# Altium footprint library semicon-chip.PcbLib: 62 footprints (part 2 of 4)
Each footprint in its own frame and in the unit in brackets; x right, y up, seen from the top. Pads: shape width x height; smd on the part's side, far side on the other; paste and mask are expansions set on the pad; w line width, h text height; cw(c..) or ccw(c..) is an arc to the next point about the centre after c.
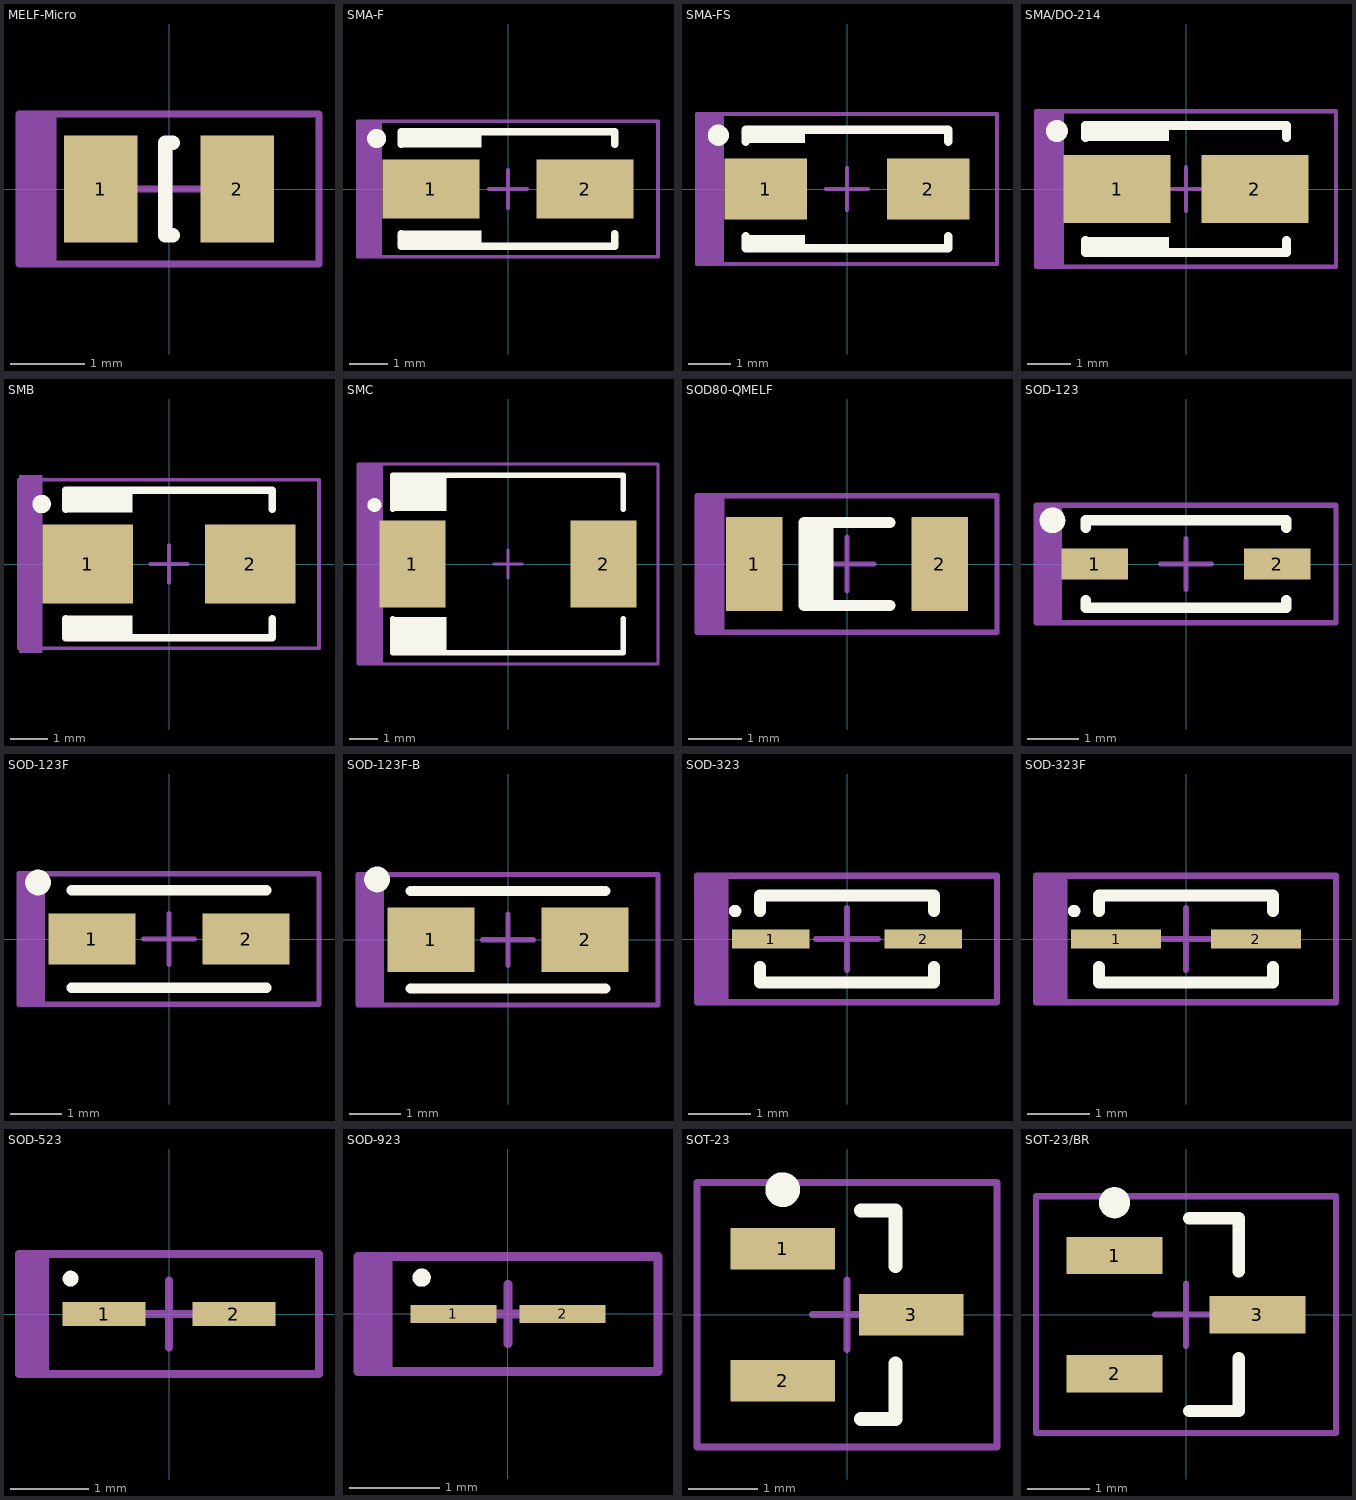
[diagram p1: the footprints below, top view; thin cyan lines are the x and y axes]

## MELF-Micro [mm] "MELF Diode, 2-Leads, Body 1,90x1,22mm, IPC Medium Density"
height 1.25
pads (2):
  rect 1x1.45 smd: 1(-0.925,0) 2(0.925,0)
Top Overlay:
  lines w0.2: 0.05,-0.625 -0.05,-0.625 -0.05,0.625 0.05,0.625
Mechanical 13:
  rectangle: -2.032,-1.016 -1.524,1.016
  lines w0.1: -2.032,-1.016 2.032,-1.016 2.032,1.016 -2.032,1.016 -2.032,-1.016
  text ".Designator" at -1.36,-0.33 h0.7
Mechanical 15:
  lines w0.05: -2.032,-1.016 2.032,-1.016 2.032,1.016 -2.032,1.016 -2.032,-1.016
  lines w0.1: -0.5,0 0.5,0 ; 0,-0.5 0,0.5
3D body: height 1.25, standoff 0, extent 0.65,-0.625 1,0.623
3D body: height 1.23, standoff 0.05, extent -0.65,-0.595 0.65,0.593
3D body: height 1.23, standoff 0.04, extent -0.6,-0.599 0,0.599
3D body: height 1.25, standoff 0, extent -1,-0.625 -0.65,0.623

## SMA-F [mm] "Molded Diode, 2-Leads, Body 5,20x2,60mm, IPC Medium Density"
height 1.2
pads (2):
  rect 2.55x1.55 smd: 1(-2.025,0) 2(2.025,0)
Top Overlay:
  circle w0.25: c-3.45,1.325 r0.125
  region: -2.8,1.1 -0.7,1.1 -0.7,1.5 -2.8,1.5
  region: -2.8,-1.1 -0.7,-1.1 -0.7,-1.5 -2.8,-1.5
  lines w0.2: -2.8,-1.175 -2.8,-1.5 2.8,-1.5 2.8,-1.175 ; -2.8,1.175 -2.8,1.5 2.8,1.5 2.8,1.175
Mechanical 13:
  rectangle: -3.937,-1.778 -3.302,1.778
  lines w0.1: -3.937,-1.778 3.937,-1.778 3.937,1.778 -3.937,1.778 -3.937,-1.778
  text ".Designator" at -3.03,-0.65 h1.5
Mechanical 15:
  lines w0.05: -3.937,-1.778 3.937,-1.778 3.937,1.778 -3.937,1.778 -3.937,-1.778
  lines w0.1: -0.5,0 0.5,0 ; 0,-0.5 0,0.5
3D body: height 1.2, standoff 0, extent -2.8,-1.475 2.8,1.475

## SMA-FS [mm] "Molded Diode, 2-Leads, Body 4,60x2,50mm, IPC Medium Density"
height 1.2
pads (2):
  rect 1.95x1.45 smd: 1(-1.925,0) 2(1.925,0)
Top Overlay:
  circle w0.25: c-3.05,1.275 r0.125
  region: -2.4,-1.1 -1,-1.1 -1,-1.4 -2.4,-1.4
  region: -2.4,1.1 -1,1.1 -1,1.4 -2.4,1.4
  lines w0.2: -2.4,-1.125 -2.4,-1.4 2.4,-1.4 2.4,-1.125 ; -2.4,1.125 -2.4,1.4 2.4,1.4 2.4,1.125
Mechanical 13:
  rectangle: -3.556,-1.778 -2.921,1.778
  lines w0.1: -3.556,-1.778 -3.556,1.778 3.556,1.778 3.556,-1.778 -3.556,-1.778
  text ".Designator" at -2.63,-0.6 h1.3
Mechanical 15:
  lines w0.05: -3.556,-1.778 -3.556,1.778 3.556,1.778 3.556,-1.778 -3.556,-1.778
  lines w0.1: -0.5,0 0.5,0 ; 0,-0.5 0,0.5
3D body: height 1.2, standoff 0, extent -2.4,-1.35 2.4,1.35

## SMA/DO-214 [mm] "Molded Diode, 2-Leads, Body 4,30x2,60mm, IPC Medium Density"
height 2.3
pads (2):
  rect 2.45x1.55 smd: 1(-1.575,0) 2(1.575,0)
Top Overlay:
  circle w0.25: c-2.95,1.325 r0.125
  region: -2.3,-1.1 -0.4,-1.1 -0.4,-1.4 -2.3,-1.4
  region: -2.3,1.1 -0.4,1.1 -0.4,1.4 -2.3,1.4
  lines w0.2: -2.3,-1.175 -2.3,-1.45 2.3,-1.45 2.3,-1.175 ; -2.3,1.175 -2.3,1.45 2.3,1.45 2.3,1.175
Mechanical 13:
  rectangle: -3.429,-1.778 -2.794,1.778
  lines w0.1: -3.429,-1.778 -3.429,1.778 3.429,1.778 3.429,-1.778 -3.429,-1.778
  text ".Designator" at -2.59,-0.65 h1.3
Mechanical 15:
  lines w0.05: -3.429,-1.778 -3.429,1.778 3.429,1.778 3.429,-1.778 -3.429,-1.778
  lines w0.1: -0.5,0 0.5,0 ; 0,-0.5 0,0.5
3D body: height 2.3, standoff 0, extent -2.3,-1.45 2.3,1.45

## SMB [mm] "Molded Diode, 2-Leads, Body 5,30x3,65mm, IPC Medium Density"
height 2.5
pads (2):
  rect 2.45x2.15 smd: 1(-2.2,0) 2(2.2,0)
Top Overlay:
  circle w0.25: c-3.45,1.625 r0.125
  region: -2.8,1.4 -1,1.4 -1,2 -2.8,2
  region: -2.8,-1.4 -1,-1.4 -1,-2 -2.8,-2
  lines w0.2: -2.8,-1.475 -2.8,-2 2.8,-2 2.8,-1.475 ; -2.8,1.475 -2.8,2 2.8,2 2.8,1.475
Mechanical 13:
  rectangle: -4.064,-2.413 -3.429,2.413
  lines w0.1: -4.064,-2.286 -4.064,2.286 4.064,2.286 4.064,-2.286 -4.064,-2.286
  text ".Designator" at -3.1,-0.63 h1.5
Mechanical 15:
  lines w0.05: -4.064,-2.286 -4.064,2.286 4.064,2.286 4.064,-2.286 -4.064,-2.286
  lines w0.1: -0.5,0 0.5,0 ; 0,-0.5 0,0.5
3D body: height 2.5, standoff 0, extent -2.8,-2 2.8,2

## SMC [mm] "Molded Diode, 2-Leads, Body 7,97x5,91mm, IPC Medium Density"
height 2.5
pads (2):
  rect 2.35x3.1 smd: 1(-3.4,0) 2(3.4,0)
Top Overlay:
  circle w0.25: c-4.75,2.1 r0.125
  region: -4.1,1.9 -2.2,1.9 -2.2,3.1 -4.1,3.1
  region: -4.1,-1.9 -2.2,-1.9 -2.2,-3.1 -4.1,-3.1
  lines w0.2: -4.1,-1.95 -4.1,-3.15 4.1,-3.15 4.1,-1.95 ; -4.1,1.95 -4.1,3.15 4.1,3.15 4.1,1.95
Mechanical 13:
  rectangle: -5.334,-3.556 -4.445,3.556
  lines w0.1: -5.334,-3.556 5.334,-3.556 5.334,3.556 -5.334,3.556 -5.334,-3.556
  text ".Designator" at -4.06,-0.88 h2
Mechanical 15:
  lines w0.05: -5.334,-3.556 5.334,-3.556 5.334,3.556 -5.334,3.556 -5.334,-3.556
  lines w0.1: -0.5,0 0.5,0 ; 0,-0.5 0,0.5
3D body: height 2.5, standoff 0, extent -4.1,-3.11 4.1,3.11

## SOD80-QMELF [mm] "MELF Diode, 2-Leads, Body 3,50x1,50mm, IPC Medium Density"
height 1.6
pads (2):
  rect 1.05x1.75 smd: 1(-1.725,0) 2(1.725,0)
Top Overlay:
  rectangle: -0.8,-0.775 -0.25,0.775
  lines w0.2: 0.8,-0.775 -0.8,-0.775 -0.8,0.775 0.8,0.775
Mechanical 13:
  rectangle: -2.794,-1.27 -2.286,1.27
  lines w0.1: -2.794,-1.27 2.794,-1.27 2.794,1.27 -2.794,1.27 -2.794,-1.27
  text ".Designator" at -2.05,-0.45 h1
Mechanical 15:
  lines w0.05: -2.794,-1.27 2.794,-1.27 2.794,1.27 -2.794,1.27 -2.794,-1.27
  lines w0.1: -0.5,0 0.5,0 ; 0,-0.5 0,0.5
3D body: height 1.59, standoff 0, extent 1.5,-0.8 1.85,0.797
3D body: height 1.58, standoff 0.04, extent -1.5,-0.77 1.5,0.767
3D body: height 1.58, standoff 0.04, extent -0.9,-0.771 -0.3,0.768
3D body: height 1.59, standoff 0, extent -1.85,-0.8 -1.5,0.797

## SOD-123 [mm] "Molded Diode, 2-Leads, Body 3,70x1,55mm, IPC Medium Density"
height 1.35
pads (2):
  rect 1.3x0.6 smd: 1(-1.775,0) 2(1.775,0)
Top Overlay:
  circle w0.25: c-2.6,0.85 r0.125
  lines w0.2: -1.95,-0.7 -1.95,-0.85 1.95,-0.85 1.95,-0.7 ; -1.95,0.7 -1.95,0.85 1.95,0.85 1.95,0.7
Mechanical 13:
  rectangle: -2.921,-1.143 -2.413,1.143
  lines w0.1: -2.921,-1.143 -2.921,1.143 2.921,1.143 2.921,-1.143 -2.921,-1.143
  text ".Designator" at -2.21,-0.48 h1.1
Mechanical 15:
  lines w0.05: -2.921,-1.143 -2.921,1.143 2.921,1.143 2.921,-1.143 -2.921,-1.143
  lines w0.1: -0.5,0 0.5,0 ; 0,-0.5 0,0.5
3D body: height 1.35, standoff 0, extent -1.925,-0.85 1.925,0.85

## SOD-123F [mm] "Molded Diode, 2-Leads, Body 3,50x1,80mm, IPC Medium Density"
height 1.15
pads (2):
  rect 1.7x1 smd: 1(-1.5,0) 2(1.5,0)
Top Overlay:
  circle w0.25: c-2.55,1.1 r0.125
  lines w0.2: -1.9,-0.95 1.9,-0.95 ; -1.9,0.95 1.9,0.95
Mechanical 13:
  rectangle: -2.921,-1.27 -2.413,1.27
  lines w0.1: -2.921,-1.27 2.921,-1.27 2.921,1.27 -2.921,1.27 -2.921,-1.27
  text ".Designator" at -2.21,-0.53 h1.1
Mechanical 15:
  lines w0.05: -2.921,-1.27 2.921,-1.27 2.921,1.27 -2.921,1.27 -2.921,-1.27
  lines w0.1: -0.5,0 0.5,0 ; 0,-0.5 0,0.5
3D body: height 1.15, standoff 0, extent -1.85,-0.95 1.85,0.95

## SOD-123F-B [mm] "Molded Diode, 2-Leads, Body 3,50x1,80mm, IPC Medium Density"
height 1.15
pads (2):
  rect 1.7x1.25 smd: 1(-1.5,0) 2(1.5,0)
Top Overlay:
  circle w0.25: c-2.55,1.175 r0.125
  lines w0.2: -1.9,-0.95 1.9,-0.95 ; -1.9,0.95 1.9,0.95
Mechanical 13:
  rectangle: -2.921,-1.27 -2.413,1.27
  lines w0.1: -2.921,-1.27 -2.921,1.27 2.921,1.27 2.921,-1.27 -2.921,-1.27
  text ".Designator" at -2.21,-0.56 h1.1
Mechanical 15:
  lines w0.05: -2.921,-1.27 -2.921,1.27 2.921,1.27 2.921,-1.27 -2.921,-1.27
  lines w0.1: -0.5,0 0.5,0 ; 0,-0.5 0,0.5
3D body: height 1.15, standoff 0, extent -1.85,-0.95 1.85,0.95

## SOD-323 [mm] "Molded Diode, 2-Leads, Body 2,50x1,30mm, IPC Medium Density"
height 1.1
pads (2):
  rect 1.25x0.3 smd: 1(-1.225,0) 2(1.225,0)
Top Overlay:
  circle w0.1: c-1.8,0.45 r0.05
  lines w0.2: -1.4,-0.45 -1.4,-0.7 1.4,-0.7 1.4,-0.45 ; -1.4,0.45 -1.4,0.7 1.4,0.7 1.4,0.45
Mechanical 13:
  rectangle: -2.413,-1.016 -1.905,1.016
  lines w0.1: -2.413,-1.016 -2.413,1.016 2.413,1.016 2.413,-1.016 -2.413,-1.016
  text ".Designator" at -1.75,-0.43 h0.9
Mechanical 15:
  lines w0.05: -2.413,-1.016 -2.413,1.016 2.413,1.016 2.413,-1.016 -2.413,-1.016
  lines w0.1: -0.5,0 0.5,0 ; 0,-0.5 0,0.5
3D body: height 1.1, standoff 0, extent -1.35,-0.7 1.35,0.7

## SOD-323F [mm] "Molded Diode, 2-Leads, Body 2,50x1,25mm, IPC Medium Density"
height 0.75
pads (2):
  rect 1.45x0.3 smd: 1(-1.125,0) 2(1.125,0)
Top Overlay:
  circle w0.1: c-1.8,0.45 r0.05
  lines w0.2: -1.4,-0.45 -1.4,-0.7 1.4,-0.7 1.4,-0.45 ; -1.4,0.45 -1.4,0.7 1.4,0.7 1.4,0.45
Mechanical 13:
  rectangle: -2.413,-1.016 -1.905,1.016
  lines w0.1: -2.413,-1.016 -2.413,1.016 2.413,1.016 2.413,-1.016 -2.413,-1.016
  text ".Designator" at -1.76,-0.41 h0.9
Mechanical 15:
  lines w0.05: -2.413,-1.016 -2.413,1.016 2.413,1.016 2.413,-1.016 -2.413,-1.016
  lines w0.1: -0.5,0 0.5,0 ; 0,-0.5 0,0.5
3D body: height 0.75, standoff 0, extent -1.35,-0.675 1.35,0.675

## SOD-523 [mm] "Molded Diode, 2-Leads, Body 1,60x0,80mm, IPC Medium Density"
height 0.65
pads (2):
  rect 1.05x0.3 smd: 1(-0.825,0) 2(0.825,0)
Top Overlay:
  circle w0.1: c-1.25,0.45 r0.05
Mechanical 13:
  rectangle: -1.905,-0.762 -1.524,0.762
  lines w0.1: -1.905,-0.762 -1.905,0.762 1.905,0.762 1.905,-0.762 -1.905,-0.762
  text ".Designator" at -1.37,-0.34 h0.7
Mechanical 15:
  lines w0.05: -1.905,-0.762 -1.905,0.762 1.905,0.762 1.905,-0.762 -1.905,-0.762
  lines w0.1: -0.425,0 0.425,0 ; 0,-0.425 0,0.425
3D body: height 0.65, standoff 0, extent -0.825,-0.425 0.825,0.425

## SOD-923 [mm] "Molded Diode, 2-Leads, Body 1,00x0,60mm, IPC Medium Density"
height 0.4
pads (2):
  rect 0.95x0.2 smd: 1(-0.6,0) 2(0.6,0)
Top Overlay:
  circle w0.1: c-0.95,0.4 r0.05
Mechanical 13:
  rectangle: -1.651,-0.635 -1.27,0.635
  lines w0.1: -1.651,-0.635 -1.651,0.635 1.651,0.635 1.651,-0.635 -1.651,-0.635
  text ".Designator" at -1.17,-0.24 h0.6
Mechanical 15:
  lines w0.05: -1.651,-0.635 -1.651,0.635 1.651,0.635 1.651,-0.635 -1.651,-0.635
  lines w0.1: -0.325,0 0.325,0 ; 0,-0.325 0,0.325
3D body: height 0.4, standoff 0, extent -0.525,-0.325 0.525,0.325

## SOT-23 [mm] "SOT23, 3-Leads, Body 2,90x2,40mm, Pitch 0,95mm, IPC Medium Density"
height 1
pads (3):
  rect 1.5x0.6 smd: 1(-0.925,0.95) 2(-0.925,-0.95) 3(0.925,0)
Top Overlay:
  circle w0.25: c-0.925,1.8 r0.125
  lines w0.2: 0.2,-1.5 0.7,-1.5 0.7,-0.7 ; 0.2,1.5 0.7,1.5 0.7,0.7
Mechanical 13:
  lines w0.1: -2.159,-1.905 -2.159,1.905 2.159,1.905 2.159,-1.905 -2.159,-1.905
  text ".Designator" at -1.9,-0.47 h1.1
Mechanical 15:
  lines w0.05: -2.159,-1.905 -2.159,1.905 2.159,1.905 2.159,-1.905 -2.159,-1.905
  lines w0.1: -0.5,0 0.5,0 ; 0,-0.5 0,0.5
3D body: height 1, standoff 0.1, extent -0.7,-1.5 0.7,1.5

## SOT-23/BR [mm] "SOT23, 3-Leads, Body 2,95x2,82mm, Pitch 0,95mm, IPC Medium Density"
height 1.4
pads (3):
  rect 1.55x0.6 smd: 1(-1.15,0.95) 2(-1.15,-0.95) 3(1.15,0)
Top Overlay:
  circle w0.25: c-1.15,1.8 r0.125
  lines w0.2: 0.05,-1.55 0.85,-1.55 0.85,-0.7 ; 0.05,1.55 0.85,1.55 0.85,0.7
Mechanical 13:
  lines w0.1: -2.413,-1.905 2.413,-1.905 2.413,1.905 -2.413,1.905 -2.413,-1.905
  text ".Designator" at -1.93,-0.57 h1.1
Mechanical 15:
  lines w0.05: -2.413,-1.905 2.413,-1.905 2.413,1.905 -2.413,1.905 -2.413,-1.905
  lines w0.1: -0.5,0 0.5,0 ; 0,-0.5 0,0.5
3D body: height 1.4, standoff 0.1, extent -0.85,-1.55 0.85,1.55